# EAGLE library part MICROSD_(?) (library molex)
microSD Memory Card Connector 1.10mm Pitch microSD* Memory Card Connector, Surface Mount, Push-Pull Type, 1.42mm Height, with Detect Switch
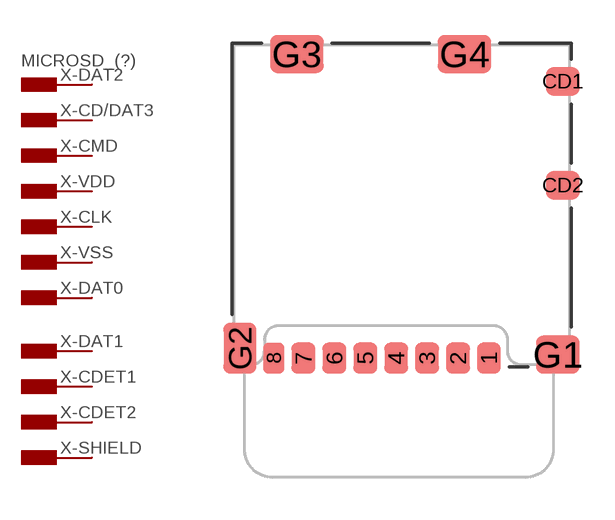
[diagram p0: symbol with the pads of MOLEX_1040310811; footprint MOLEX_1040310811]

Designator prefix X; gates -DAT2=CONTACT_MALE -CD/DAT3=CONTACT_MALE -CMD=CONTACT_MALE -VDD=CONTACT_MALE -CLK=CONTACT_MALE -VSS=CONTACT_MALE -DAT0=CONTACT_MALE -DAT1=CONTACT_MALE -CDET1=CONTACT_MALE -CDET2=CONTACT_MALE -SHIELD=CONTACT_MALE G$1=VALUE

## MICROSD_(1040310811) (HEIGHT: 1.42; PARTNUMBER: 1040310811)  [MOLEX_1040310811]
1  -DAT2:1
2  -CD/DAT3:1
3  -CMD:1
4  -VDD:1
5  -CLK:1
6  -VSS:1
7  -DAT0:1
8  -DAT1:1
CD1  -CDET1:1
CD2  -CDET2:1
G1  -SHIELD:1
G2  -SHIELD:1
G3  -SHIELD:1
G4  -SHIELD:1

## Footprint MOLEX_1040310811 (pad centres in mm)
smd 0.85 x 1.1: 1 3.85,0; 2 2.75,0; 3 1.65,0; 4 0.55,0; 5 -0.55,0; 6 -1.65,0; 7 -2.75,0
smd 0.75 x 1.1: 8 -3.8,0
smd 1.2 x 1: CD1 6.485,9.85; CD2 6.485,6.15
smd 1.55 x 1.35: G1 6.31,0.125
smd 1.17 x 1.8: G2 -5.01,0.35
smd 1.9 x 1.35: G3 -2.985,10.825; G4 2.985,10.825